# EAGLE library part MEGA_DEVICE (library ArduinoMegaSymbol)
mega card as device
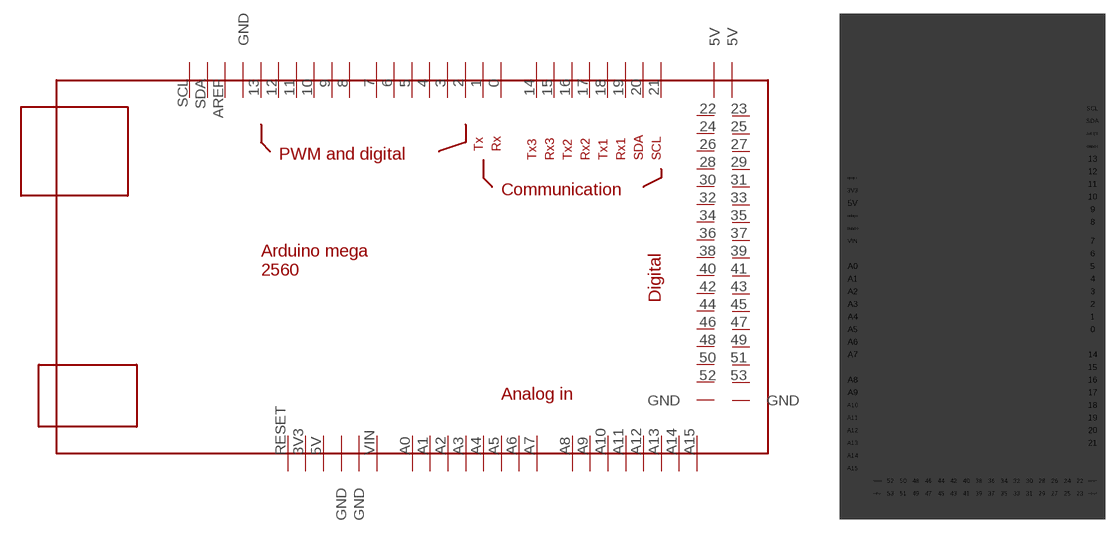
[diagram p0: symbol with the pads of MEGABOX; footprint MEGABOX]

Designator prefix -

## MEGA_DEVICE  [MEGABOX]
0  0
1  1
2  2
3  3
3V3  3V3
4  4
5  5
5V  5V
6  6
7  7
8  8
9  9
10  10
11  11
12  12
13  13
14  14
15  15
16  16
17  17
18  18
19  19
20  20
21  21
22  22
23  23
24  24
25  25
26  26
27  27
28  28
29  29
30  30
31  31
32  32
33  33
34  34
35  35
36  36
37  37
38  38
39  39
40  40
41  41
42  42
43  43
44  44
45  45
46  46
47  47
48  48
49  49
50  50
51  51
52  52
53  53
A0  A0
A1  A1
A2  A2
A3  A3
A4  A4
A5  A5
A6  A6
A7  A7
A8  A8
A9  A9
A10  A10
A11  A11
A12  A12
A13  A13
A14  A14
A15  A15
AREF  AREF
GND@1  GND
GND@2  GND
GND@3  GND
GND@4  5V
GND@5  5V
GND@6  GND
GND@7  GND
RESET  RESET
SCL  SCL
SDA  SDA
VIN  VIN

## Footprint MEGABOX (pad centres in mm)
Empty box
drill 0.8 pad 1.93: 0 24.13,-7.62; 1 24.13,-5.08; 2 24.13,-2.54; 3 24.13,0; 3V3 -24.13,20.32; 4 24.13,2.54; 5 24.13,5.08; 5V -24.13,17.78; 6 24.13,7.62; 7 24.13,10.16; 8 24.13,13.97; 9 24.13,16.51; 10 24.13,19.05; 11 24.13,21.59; 12 24.13,24.13; 13 24.13,26.67; 14 24.13,-12.7; 15 24.13,-15.24; 16 24.13,-17.78; 17 24.13,-20.32; 18 24.13,-22.86; 19 24.13,-25.4; 20 24.13,-27.94; 21 24.13,-30.48; A0 -24.13,5.08; A1 -24.13,2.54; A2 -24.13,0; A3 -24.13,-2.54; A4 -24.13,-5.08; A5 -24.13,-7.62; A6 -24.13,-10.16; A7 -24.13,-12.7; A8 -24.13,-17.78; A9 -24.13,-20.32; A10 -24.13,-22.86; A11 -24.13,-25.4; A12 -24.13,-27.94; A13 -24.13,-30.48; A14 -24.13,-33.02; A15 -24.13,-35.56; AREF 24.13,31.75; GND@1 24.13,29.21; GND@2 -24.13,15.24; GND@3 -24.13,12.7; RESET -24.13,22.86; SCL 24.13,36.83; SDA 24.13,34.29; VIN -24.13,10.16
drill 0.8 pad 1.27 offset: 22 21.59,-38.1; 23 21.59,-40.64; 24 19.05,-38.1; 25 19.05,-40.64; 26 16.51,-38.1; 27 16.51,-40.64; 28 13.97,-38.1; 29 13.97,-40.64; 30 11.43,-38.1; 31 11.43,-40.64; 32 8.89,-38.1; 33 8.89,-40.64; 34 6.35,-38.1; 35 6.35,-40.64; 36 3.81,-38.1; 37 3.81,-40.64; 38 1.27,-38.1; 39 1.27,-40.64; 40 -1.27,-38.1; 41 -1.27,-40.64; 42 -3.81,-38.1; 43 -3.81,-40.64; 44 -6.35,-38.1; 45 -6.35,-40.64; 46 -8.89,-38.1; 47 -8.89,-40.64; 48 -11.43,-38.1; 49 -11.43,-40.64; 50 -13.97,-38.1; 51 -13.97,-40.64; 52 -16.51,-38.1; 53 -16.51,-40.64; GND@4 24.13,-38.1; GND@5 24.13,-40.64; GND@6 -19.05,-38.1; GND@7 -19.05,-40.64